# Altium schematic symbol library TPS7A8300.SchLib: 1 symbol
Pins are listed as number, name and electrical type; pins without a type are passive.

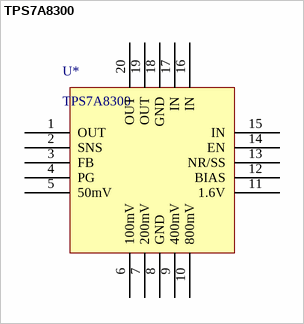
[diagram p0: symbol TPS7A8300]

## TPS7A8300
designator U*
pins: 1 OUT, 2 SNS, 3 FB, 4 PG, 5 50mV, 6 100mV, 7 200mV, 8 GND, 9 400mV, 10 800mV, 11 1.6V, 12 BIAS, 13 NR/SS, 14 EN, 15 IN, 16 IN, 17 IN, 18 GND, 19 OUT, 20 OUT